# EAGLE library part LPS25HBTR (library LPS25HBTR)
Board Mount Pressure Sensor 26kPa to 126kPa Absolute 10-Pin HLGA T/R Source: Datasheet <https://www.st.com/resource/en/datasheet/lps25hb.pdf>
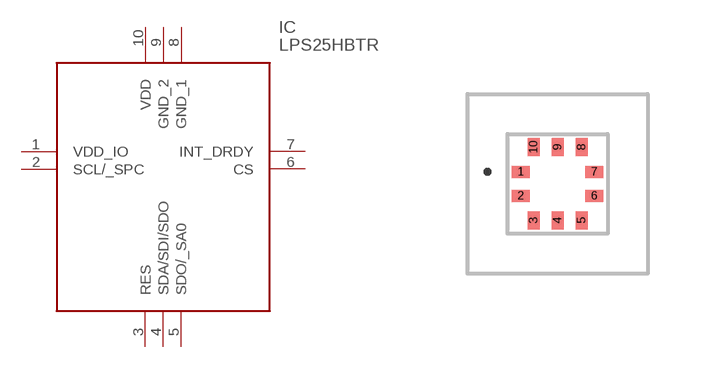
[diagram p0: symbol with the pads of LPS25HBTR; footprint LPS25HBTR]

Designator prefix IC

## LPS25HBTR (Description: Board Mount Pressure Sensor 26kPa to 126kPa Absolute 10-Pin HLGA T/R; Height: 0.8mm; Manufacturer_Name: STMicroelectronics; Manufacturer_Part_Number: LPS25HBTR; Mouser_Part_Number: 511-LPS25HBTR; Mouser_Price-Stock: https://www.mouser.co.uk/ProductDetail/STMicroelectronics/LPS25HBTR?qs=GDOUxV2YAh9IvjPyBKWGzQ%3D%3D)  [LPS25HBTR]
1  VDD_IO
2  SCL/_SPC
3  RES
4  SDA/SDI/SDO
5  SDO/_SA0
6  CS
7  INT_DRDY
8  GND_1
9  GND_2
10  VDD

## Footprint LPS25HBTR (pad centres in mm)
HLGA-10L_2021
smd 0.45 x 0.3: 1 -0.92,0.3; 2 -0.92,-0.3; 6 0.92,-0.3; 7 0.92,0.3
smd 0.3 x 0.45: 3 -0.6,-0.92; 4 0,-0.92; 5 0.6,-0.92; 8 0.6,0.92; 9 0,0.92; 10 -0.6,0.92